# Altium schematic symbol library IC_ADS1250.SchLib: 1 symbol
Pins are listed as number, name and electrical type; pins without a type are passive.

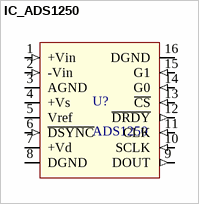
[diagram p0: symbol IC_ADS1250]

## IC_ADS1250
designator U?, comment ADS1250
20bit Sigma-Delta ADC
pins: 1 +Vin (in), 2 -Vin (in), 3 AGND (power), 4 +Vs (power), 5 Vref, 6 ~{DSYNC} (in), 7 +Vd (power), 8 DGND (power), 9 DOUT (out), 10 SCLK (in), 11 CLK (in), 12 ~{DRDY} (out), 13 ~{CS} (in), 14 G0 (in), 15 G1 (in), 16 DGND (power)